# Altium footprint library lib_pcb.PcbLib: 9 footprints
Each footprint in its own frame and in the unit in brackets; x right, y up, seen from the top. Pads: shape width x height; smd on the part's side, far side on the other; paste and mask are expansions set on the pad; w line width, h text height; cw(c..) or ccw(c..) is an arc to the next point about the centre after c.
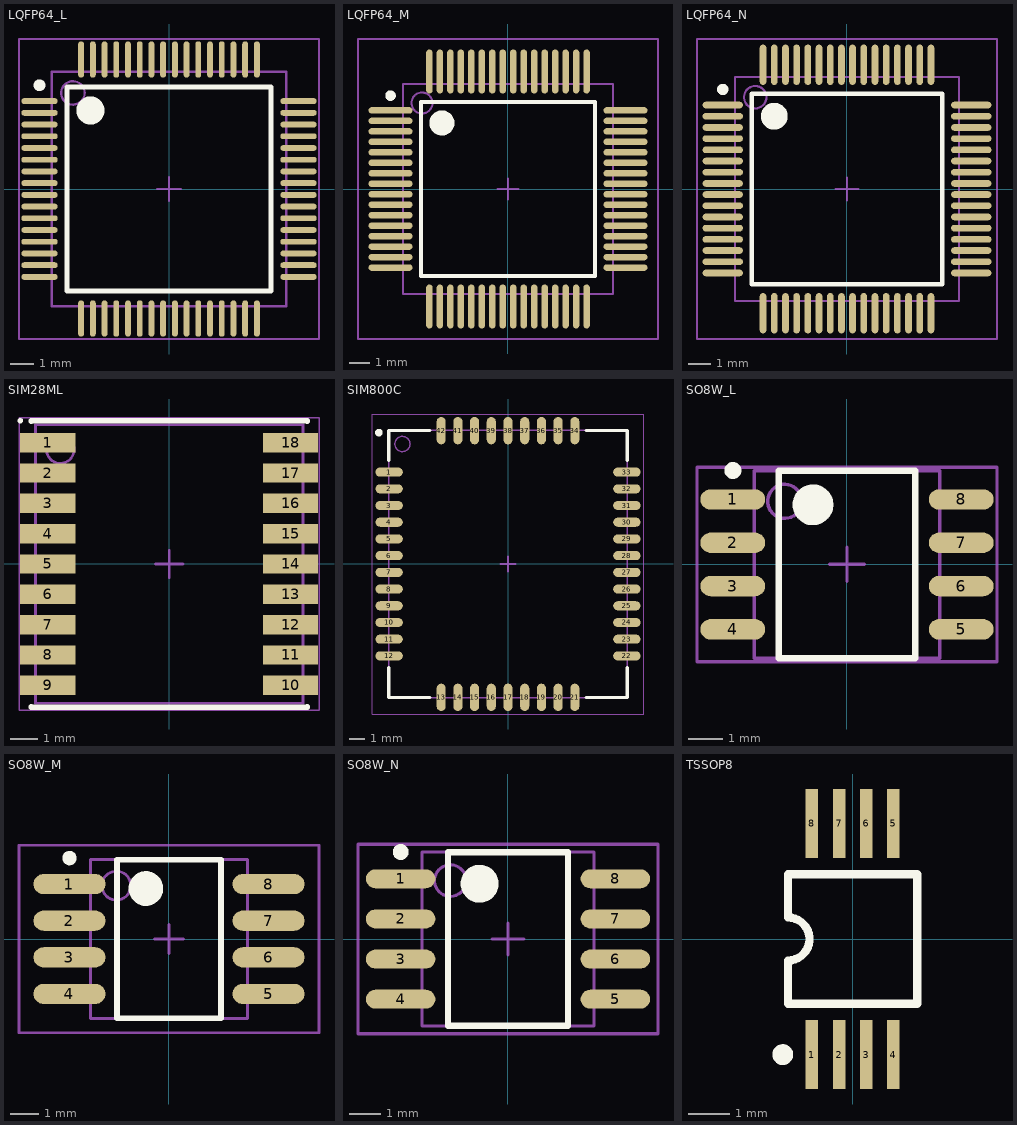
[diagram p0: the footprints below, top view; thin cyan lines are the x and y axes]

## LQFP64_L [mm] "Thin QFP, 64-Leads, Body 10x10mm, Pitch 0.5mm, IPC High Density"
height 1.6
pads (64):
  oval 1.55x0.25 smd: 1(-5.525,3.75) 2(-5.525,3.25) 3(-5.525,2.75) 4(-5.525,2.25) 5(-5.525,1.75) 6(-5.525,1.25) 7(-5.525,0.75) 8(-5.525,0.25) 9(-5.525,-0.25) 10(-5.525,-0.75) 11(-5.525,-1.25) 12(-5.525,-1.75) 13(-5.525,-2.25) 14(-5.525,-2.75) 15(-5.525,-3.25) 16(-5.525,-3.75) 33(5.525,-3.75) 34(5.525,-3.25) 35(5.525,-2.75) 36(5.525,-2.25) 37(5.525,-1.75) 38(5.525,-1.25) 39(5.525,-0.75) 40(5.525,-0.25) 41(5.525,0.25) 42(5.525,0.75) 43(5.525,1.25) 44(5.525,1.75) 45(5.525,2.25) 46(5.525,2.75) 47(5.525,3.25) 48(5.525,3.75)
  oval 0.25x1.55 smd: 17(-3.75,-5.525) 18(-3.25,-5.525) 19(-2.75,-5.525) 20(-2.25,-5.525) 21(-1.75,-5.525) 22(-1.25,-5.525) 23(-0.75,-5.525) 24(-0.25,-5.525) 25(0.25,-5.525) 26(0.75,-5.525) 27(1.25,-5.525) 28(1.75,-5.525) 29(2.25,-5.525) 30(2.75,-5.525) 31(3.25,-5.525) 32(3.75,-5.525) 49(3.75,5.525) 50(3.25,5.525) 51(2.75,5.525) 52(2.25,5.525) 53(1.75,5.525) 54(1.25,5.525) 55(0.75,5.525) 56(0.25,5.525) 57(-0.25,5.525) 58(-0.75,5.525) 59(-1.25,5.525) 60(-1.75,5.525) 61(-2.25,5.525) 62(-2.75,5.525) 63(-3.25,5.525) 64(-3.75,5.525)
Top Overlay:
  circle w0.6: c-3.35,3.35 r0.3
  circle w0.25: c-5.525,4.425 r0.125
  lines w0.2: -4.35,-4.35 4.35,-4.35 4.35,4.35 -4.35,4.35 -4.35,-4.35
Mechanical 13:
  circle w0.1: c-4.1,4.1 r0.5
  lines w0.1: -5,-5 5,-5 5,5 -5,5 -5,-5
Mechanical 15:
  lines w0.1: -0.5,0 0.5,0 ; 0,-0.5 0,0.5 ; -6.4,-6.4 6.4,-6.4 6.4,6.4 -6.4,6.4 -6.4,-6.4
3D body: height 1.6, standoff 0, extent -5,-5 5,5

## LQFP64_M [mm] "Thin QFP, 64-Leads, Body 10x10mm, Pitch 0.5mm, IPC Low Density"
height 1.6
pads (64):
  oval 2.1x0.3 smd: 1(-5.6,3.75) 2(-5.6,3.25) 3(-5.6,2.75) 4(-5.6,2.25) 5(-5.6,1.75) 6(-5.6,1.25) 7(-5.6,0.75) 8(-5.6,0.25) 9(-5.6,-0.25) 10(-5.6,-0.75) 11(-5.6,-1.25) 12(-5.6,-1.75) 13(-5.6,-2.25) 14(-5.6,-2.75) 15(-5.6,-3.25) 16(-5.6,-3.75) 33(5.6,-3.75) 34(5.6,-3.25) 35(5.6,-2.75) 36(5.6,-2.25) 37(5.6,-1.75) 38(5.6,-1.25) 39(5.6,-0.75) 40(5.6,-0.25) 41(5.6,0.25) 42(5.6,0.75) 43(5.6,1.25) 44(5.6,1.75) 45(5.6,2.25) 46(5.6,2.75) 47(5.6,3.25) 48(5.6,3.75)
  oval 0.3x2.1 smd: 17(-3.75,-5.6) 18(-3.25,-5.6) 19(-2.75,-5.6) 20(-2.25,-5.6) 21(-1.75,-5.6) 22(-1.25,-5.6) 23(-0.75,-5.6) 24(-0.25,-5.6) 25(0.25,-5.6) 26(0.75,-5.6) 27(1.25,-5.6) 28(1.75,-5.6) 29(2.25,-5.6) 30(2.75,-5.6) 31(3.25,-5.6) 32(3.75,-5.6) 49(3.75,5.6) 50(3.25,5.6) 51(2.75,5.6) 52(2.25,5.6) 53(1.75,5.6) 54(1.25,5.6) 55(0.75,5.6) 56(0.25,5.6) 57(-0.25,5.6) 58(-0.75,5.6) 59(-1.25,5.6) 60(-1.75,5.6) 61(-2.25,5.6) 62(-2.75,5.6) 63(-3.25,5.6) 64(-3.75,5.6)
Top Overlay:
  circle w0.25: c-5.6,4.45 r0.125
  circle w0.6: c-3.15,3.15 r0.3
  lines w0.2: -4.15,-4.15 -4.15,4.15 4.15,4.15 4.15,-4.15 -4.15,-4.15
Mechanical 13:
  circle w0.1: c-4.1,4.1 r0.5
  lines w0.1: -5,-5 -5,5 5,5 5,-5 -5,-5
Mechanical 15:
  lines w0.1: -0.5,0 0.5,0 ; 0,-0.5 0,0.5 ; -7.15,-7.15 -7.15,7.15 7.15,7.15 7.15,-7.15 -7.15,-7.15
3D body: height 1.6, standoff 0, extent -5,-5 5,5

## LQFP64_N [mm] "Thin QFP, 64-Leads, Body 10x10mm, Pitch 0.5mm, IPC Medium Density"
height 1.6
pads (64):
  oval 1.8x0.3 smd: 1(-5.55,3.75) 2(-5.55,3.25) 3(-5.55,2.75) 4(-5.55,2.25) 5(-5.55,1.75) 6(-5.55,1.25) 7(-5.55,0.75) 8(-5.55,0.25) 9(-5.55,-0.25) 10(-5.55,-0.75) 11(-5.55,-1.25) 12(-5.55,-1.75) 13(-5.55,-2.25) 14(-5.55,-2.75) 15(-5.55,-3.25) 16(-5.55,-3.75) 33(5.55,-3.75) 34(5.55,-3.25) 35(5.55,-2.75) 36(5.55,-2.25) 37(5.55,-1.75) 38(5.55,-1.25) 39(5.55,-0.75) 40(5.55,-0.25) 41(5.55,0.25) 42(5.55,0.75) 43(5.55,1.25) 44(5.55,1.75) 45(5.55,2.25) 46(5.55,2.75) 47(5.55,3.25) 48(5.55,3.75)
  oval 0.3x1.8 smd: 17(-3.75,-5.55) 18(-3.25,-5.55) 19(-2.75,-5.55) 20(-2.25,-5.55) 21(-1.75,-5.55) 22(-1.25,-5.55) 23(-0.75,-5.55) 24(-0.25,-5.55) 25(0.25,-5.55) 26(0.75,-5.55) 27(1.25,-5.55) 28(1.75,-5.55) 29(2.25,-5.55) 30(2.75,-5.55) 31(3.25,-5.55) 32(3.75,-5.55) 49(3.75,5.55) 50(3.25,5.55) 51(2.75,5.55) 52(2.25,5.55) 53(1.75,5.55) 54(1.25,5.55) 55(0.75,5.55) 56(0.25,5.55) 57(-0.25,5.55) 58(-0.75,5.55) 59(-1.25,5.55) 60(-1.75,5.55) 61(-2.25,5.55) 62(-2.75,5.55) 63(-3.25,5.55) 64(-3.75,5.55)
Top Overlay:
  circle w0.25: c-5.55,4.45 r0.125
  circle w0.6: c-3.25,3.25 r0.3
  lines w0.2: -4.25,-4.25 -4.25,4.25 4.25,4.25 4.25,-4.25 -4.25,-4.25
Mechanical 13:
  circle w0.1: c-4.1,4.1 r0.5
  lines w0.1: -5,-5 -5,5 5,5 5,-5 -5,-5
Mechanical 15:
  lines w0.1: -0.5,0 0.5,0 ; 0,-0.5 0,0.5 ; -6.7,-6.7 -6.7,6.7 6.7,6.7 6.7,-6.7 -6.7,-6.7
3D body: height 1.6, standoff 0, extent -5,-5 5,5

## SIM28ML [mm] "SON, 18-Leads, Body 10.10x9.70mm, Pitch 1.10mm, IPC Medium Density"
height 2.5
pads (18):
  rect 2x0.7 smd: 1(-4.405,4.4) 2(-4.405,3.3) 3(-4.405,2.2) 4(-4.405,1.1) 5(-4.405,0) 6(-4.405,-1.1) 7(-4.405,-2.2) 8(-4.405,-3.3) 9(-4.405,-4.4) 10(4.405,-4.4) 11(4.405,-3.3) 12(4.405,-2.2) 13(4.405,-1.1) 14(4.405,0) 15(4.405,1.1) 16(4.405,2.2) 17(4.405,3.3) 18(4.405,4.4)
Top Overlay:
  circle w0.1: c-5.4,5.2 r0.05
  lines w0.2: -5,-5.175 -5,-5.2 5,-5.2 5,-5.175 ; -5,5.175 -5,5.2 5,5.2 5,5.175
Mechanical 13:
  circle w0.1: c-3.95,4.15 r0.5
  lines w0.1: -4.85,-5.05 4.85,-5.05 4.85,5.05 -4.85,5.05 -4.85,-5.05
Mechanical 15:
  lines w0.05: -5.435,-5.3 5.435,-5.3 5.435,5.3 -5.435,5.3 -5.435,-5.3
  lines w0.1: -0.5,0 0.5,0 ; 0,-0.5 0,0.5
3D body: height 2.56, standoff -0.01, extent -4.86,-5.05 4.86,5.05

## SIM800C [mm] "PQFN, 42-Leads, Body 15.70x17.60mm, Pitch 1.10mm, Thermal Pad 4.00x2.20mm, IPC Medium Density"
height 4
pads (42):
  oval 1.8x0.6 smd: 1(-7.825,6.05) 2(-7.825,4.95) 3(-7.825,3.85) 4(-7.825,2.75) 5(-7.825,1.65) 6(-7.825,0.55) 7(-7.825,-0.55) 8(-7.825,-1.65) 9(-7.825,-2.75) 10(-7.825,-3.85) 11(-7.825,-4.95) 12(-7.825,-6.05) 22(7.825,-6.05) 23(7.825,-4.95) 24(7.825,-3.85) 25(7.825,-2.75) 26(7.825,-1.65) 27(7.825,-0.55) 28(7.825,0.55) 29(7.825,1.65) 30(7.825,2.75) 31(7.825,3.85) 32(7.825,4.95) 33(7.825,6.05)
  oval 0.6x1.8 smd: 13(-4.4,-8.775) 14(-3.3,-8.775) 15(-2.2,-8.775) 16(-1.1,-8.775) 17(0,-8.775) 18(1.1,-8.775) 19(2.2,-8.775) 20(3.3,-8.775) 21(4.4,-8.775) 34(4.4,8.775) 35(3.3,8.775) 36(2.2,8.775) 37(1.1,8.775) 38(0,8.775) 39(-1.1,8.775) 40(-2.2,8.775) 41(-3.3,8.775) 42(-4.4,8.775)
Top Overlay:
  circle w0.25: c-8.5,8.65 r0.125
  lines w0.2: -7.85,-6.8 -7.85,-8.8 -5.15,-8.8 ; -7.85,6.8 -7.85,8.8 -5.15,8.8 ; 5.15,-8.8 7.85,-8.8 7.85,-6.8 ; 5.15,8.8 7.85,8.8 7.85,6.8
Mechanical 13:
  circle w0.1: c-6.95,7.9 r0.5
  lines w0.1: -7.85,-8.8 -7.85,8.8 7.85,8.8 7.85,-8.8 -7.85,-8.8
Mechanical 15:
  lines w0.05: -8.925,-9.875 -8.925,9.875 8.925,9.875 8.925,-9.875 -8.925,-9.875
  lines w0.1: -0.5,0 0.5,0 ; 0,-0.5 0,0.5
3D body: height 2.3, standoff 0, extent -7.8,-8.8 7.9,8.8

## SO8W_L [mm] "SOP, 8-Leads, Body 5.3x5.3mm, Pitch 1.27mm, IPC High Density"
height 2.13
pads (8):
  oval 1.9x0.6 smd: 1(-3.35,1.905) 2(-3.35,0.635) 3(-3.35,-0.635) 4(-3.35,-1.905) 5(3.35,-1.905) 6(3.35,-0.635) 7(3.35,0.635) 8(3.35,1.905)
Top Overlay:
  circle w0.25: c-3.35,2.755 r0.125
  circle w0.6: c-1,1.75 r0.3
  lines w0.2: -2,-2.75 -2,2.75 2,2.75 2,-2.75 -2,-2.75
Mechanical 13:
  circle w0.1: c-1.825,1.85 r0.5
  lines w0.1: -2.725,-2.75 -2.725,2.75 2.725,2.75 2.725,-2.75 -2.725,-2.75
Mechanical 15:
  lines w0.1: -0.5,0 0.5,0 ; 0,-0.5 0,0.5 ; -4.4,-2.85 -4.4,2.85 4.4,2.85 4.4,-2.85 -4.4,-2.85
3D body: height 2.13, standoff 0, extent -2.725,-2.75 2.725,2.75

## SO8W_M [mm] "SOP, 8-Leads, Body 5.3x5.3mm, Pitch 1.27mm, IPC Low Density"
height 2.13
pads (8):
  oval 2.5x0.7 smd: 1(-3.45,1.905) 2(-3.45,0.635) 3(-3.45,-0.635) 4(-3.45,-1.905) 5(3.45,-1.905) 6(3.45,-0.635) 7(3.45,0.635) 8(3.45,1.905)
Top Overlay:
  circle w0.25: c-3.45,2.805 r0.125
  circle w0.6: c-0.8,1.75 r0.3
  lines w0.2: -1.8,-2.75 -1.8,2.75 1.8,2.75 1.8,-2.75 -1.8,-2.75
Mechanical 13:
  circle w0.1: c-1.825,1.85 r0.5
  lines w0.1: -2.725,-2.75 -2.725,2.75 2.725,2.75 2.725,-2.75 -2.725,-2.75
Mechanical 15:
  lines w0.1: -0.5,0 0.5,0 ; 0,-0.5 0,0.5 ; -5.2,-3.25 -5.2,3.25 5.2,3.25 5.2,-3.25 -5.2,-3.25
3D body: height 2.13, standoff 0, extent -2.725,-2.75 2.725,2.75

## SO8W_N [mm] "SOP, 8-Leads, Body 5.3x5.3mm, Pitch 1.27mm, IPC Medium Density"
height 2.13
pads (8):
  oval 2.2x0.6 smd: 1(-3.4,1.905) 2(-3.4,0.635) 3(-3.4,-0.635) 4(-3.4,-1.905) 5(3.4,-1.905) 6(3.4,-0.635) 7(3.4,0.635) 8(3.4,1.905)
Top Overlay:
  circle w0.25: c-3.4,2.755 r0.125
  circle w0.6: c-0.9,1.75 r0.3
  lines w0.2: -1.9,-2.75 -1.9,2.75 1.9,2.75 1.9,-2.75 -1.9,-2.75
Mechanical 13:
  circle w0.1: c-1.825,1.85 r0.5
  lines w0.1: -2.725,-2.75 -2.725,2.75 2.725,2.75 2.725,-2.75 -2.725,-2.75
Mechanical 15:
  lines w0.1: -0.5,0 0.5,0 ; 0,-0.5 0,0.5 ; -4.75,-3 -4.75,3 4.75,3 4.75,-3 -4.75,-3
3D body: height 2.13, standoff 0, extent -2.725,-2.75 2.725,2.75

## TSSOP8 [mm] "Shrink Small Outline, Plastic, Thin; 8 Leads; Body Width 4.4 mm; Pitch 0.65 mm"
height 1.1
pads (8):
  rect 0.3x1.65 smd: 1(-0.975,-2.775) 2(-0.325,-2.775) 3(0.325,-2.775) 4(0.975,-2.775) 5(0.975,2.775) 6(0.325,2.775) 7(-0.325,2.775) 8(-0.975,2.775)
Top Overlay:
  circle w0.25: c-1.675,-2.775 r0.125
  lines w0.2: -1.55,-1.55 -1.55,-0.517 ccw(c-1.55,0) -1.55,0.517 -1.55,1.55 1.55,1.55 1.55,-1.55 -1.55,-1.55